# Altium schematic symbol library Schlib1.SchLib: 39 symbols
Pins are listed as number, name and electrical type; pins without a type are passive.

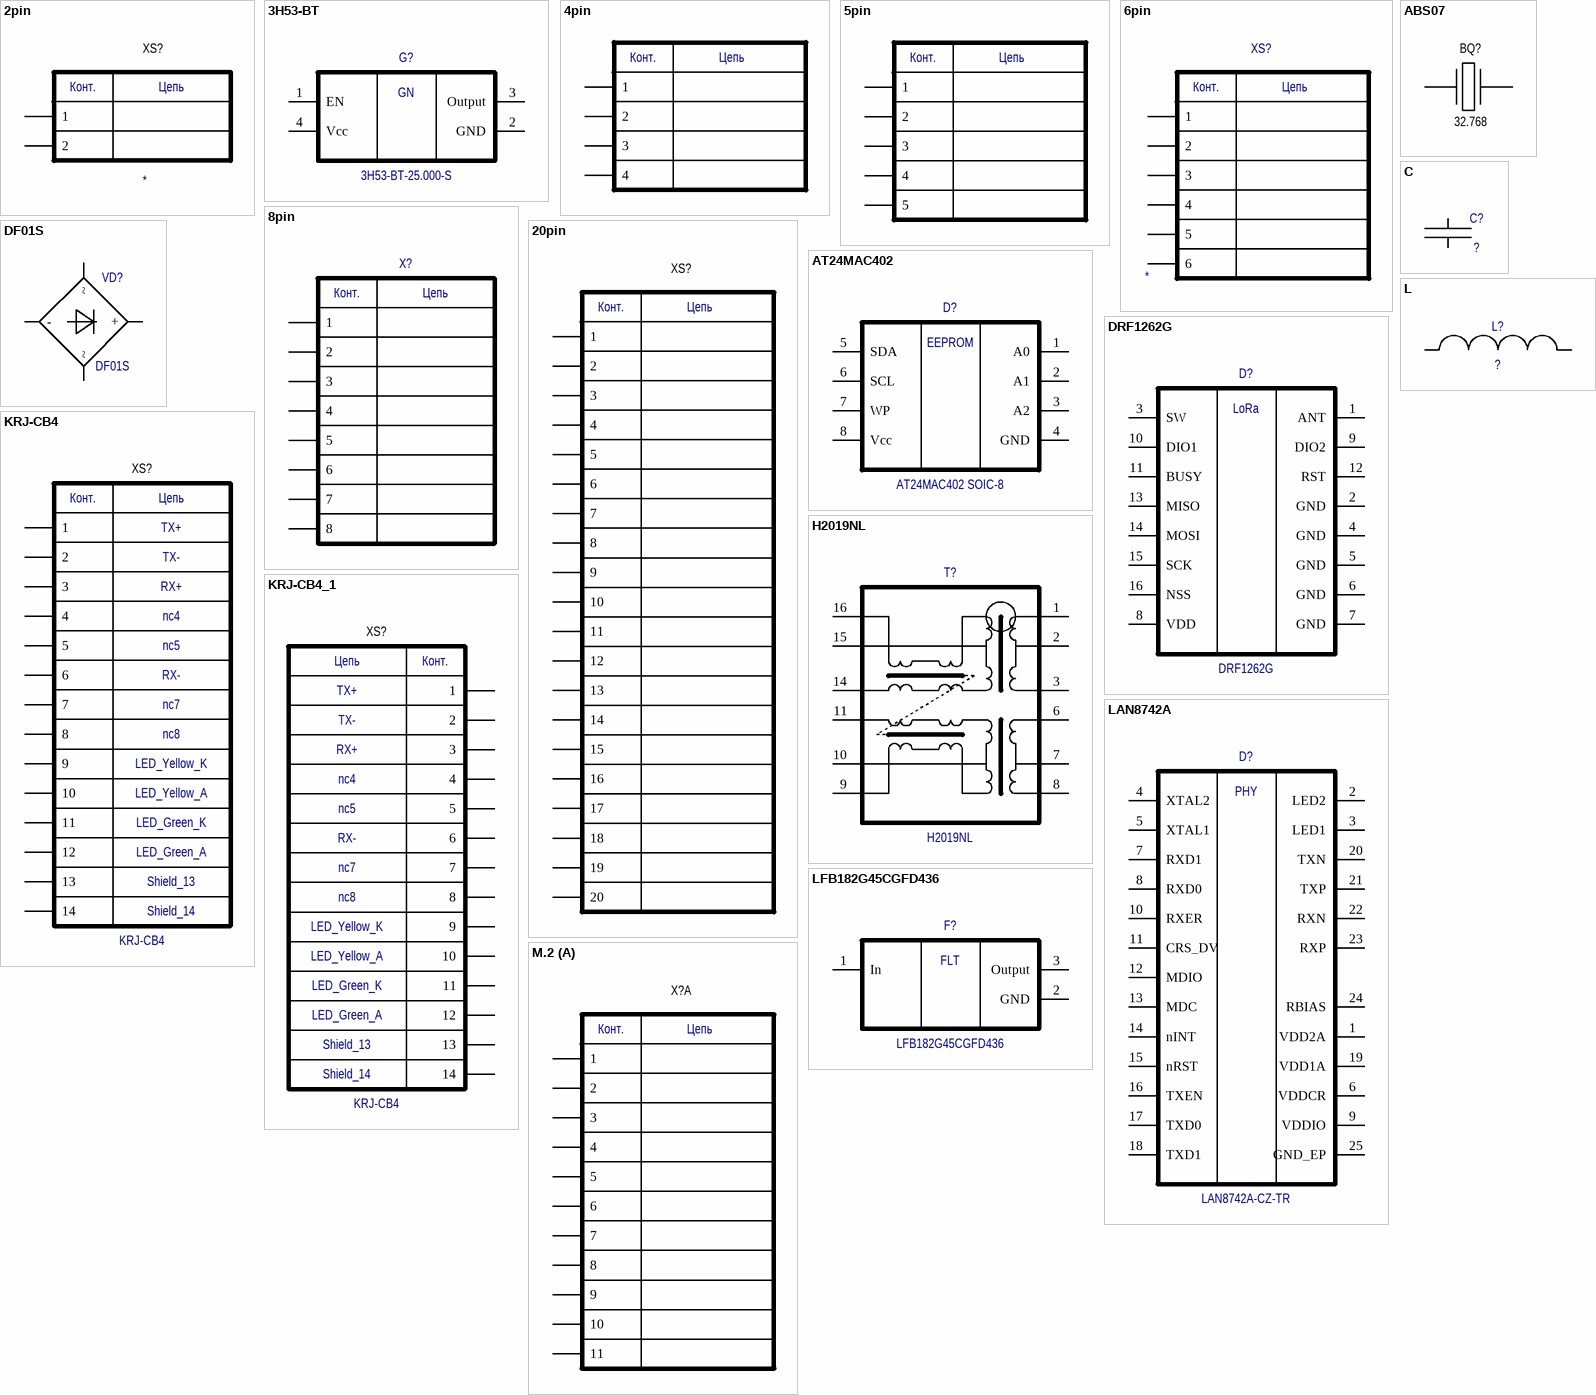
[diagram p0: symbols 2pin to M.2]

## 2pin
designator XS?
footprint SMA_angled
pins: 1, 2
text: Конт.; Цепь

## 3H53-BT
designator G?, comment 3H53-BT-25.000-S
footprint SMD4_5032
pins: 1 EN, 2 GND, 3 Output, 4 Vcc
text: GN

## 4pin
designator *  (value not drawn)
footprint СI1104М1V (4pin)
pins: 1, 2, 3, 4
text: Конт.; Цепь

## 5pin
designator *  (value not drawn)
footprint СI1105М1V (5pin)
pins: 1, 2, 3, 4, 5
text: Конт.; Цепь

## 6pin
designator XS?
Manufacturer: *; PartNumber: *
footprint PLS-6
footprint СI1106М1V (6pin)
footprint PLD-6
pins: 1, 2, 3, 4, 5, 6
text: Конт.; Цепь

## 8pin
designator X?  (value not drawn)
footprint СI1108М1V (8pin)
pins: 1, 2, 3, 4, 5, 6, 7, 8
text: Конт.; Цепь

## 20pin
designator XS?  (value not drawn)
footprint 20P-JMDSS-G-1-TF (20 pin plug)
footprint 20R-JMDSS-G-1-TF (20 pin Receptacle)
pins: 1, 2, 3, 4, 5, 6, 7, 8, 9, 10, 11, 12, 13, 14, 15, 16, 17, 18, 19, 20
text: Конт.; Цепь

## ABS07
designator BQ?  value 32.768  (hidden comment: ABS07)
footprint ABS07 (32.768)
pins: 1, 2

## AT24MAC402
designator D?, comment AT24MAC402 SOIC-8
pins: 1 A0, 2 A1, 3 A2, 4 GND, 5 SDA, 6 SCL, 7 WP, 8 Vcc
text: EEPROM

## C
designator C?  (value not drawn)
Voltage: ?; Value: ?
footprint С0603
pins: 1, 2

## DF01S
designator VD?
pins: 1 +, 2 -, 3 ~, 4 ~

## DRF1262G
designator D?
pins: 1 ANT, 2 GND, 3 SW, 4 GND, 5 GND, 6 GND, 7 GND, 8 VDD, 9 DIO2, 10 DIO1, 11 BUSY, 12 RST, 13 MISO, 14 MOSI, 15 SCK, 16 NSS
text: LoRa

## H2019NL
designator T?
pins: 1, 2, 3, 6, 7, 8, 9, 10, 11, 14, 15, 16

## KRJ-CB4
designator XS?
pins: 1, 2, 3, 4, 5, 6, 7, 8, 9, 10, 11, 12, 13, 14
text: Конт.; Цепь; TX+; TX-; RX+; nc4; nc5; RX-; nc7; nc8; LED_Yellow_K; LED_Yellow_A; LED_Green_K; LED_Green_A; Shield_13; Shield_14

## KRJ-CB4_1
designator XS?, comment KRJ-CB4
pins: 1, 2, 3, 4, 5, 6, 7, 8, 9, 10, 11, 12, 13, 14
text: Цепь; Конт.; TX+; TX-; RX+; nc4; nc5; RX-; nc7; nc8; LED_Yellow_K; LED_Yellow_A; LED_Green_K; LED_Green_A; Shield_13; Shield_14

## L
designator L?  (value not drawn)
Value: ?
pins: 1, 2

## LAN8742A
designator D?, comment LAN8742A-CZ-TR
pins: 1 VDD2A, 2 LED2, 3 LED1, 4 XTAL2, 5 XTAL1, 6 VDDCR, 7 RXD1, 8 RXD0, 9 VDDIO, 10 RXER, 11 CRS_DV, 12 MDIO, 13 MDC, 14 nINT, 15 nRST, 16 TXEN, 17 TXD0, 18 TXD1, 19 VDD1A, 20 TXN, 21 TXP, 22 RXN, 23 RXP, 24 RBIAS, 25 GND_EP
text: PHY

## LFB182G45CGFD436
designator F?
footprint 0603_3pin
pins: 1 In, 2 GND, 3 Output
text: FLT

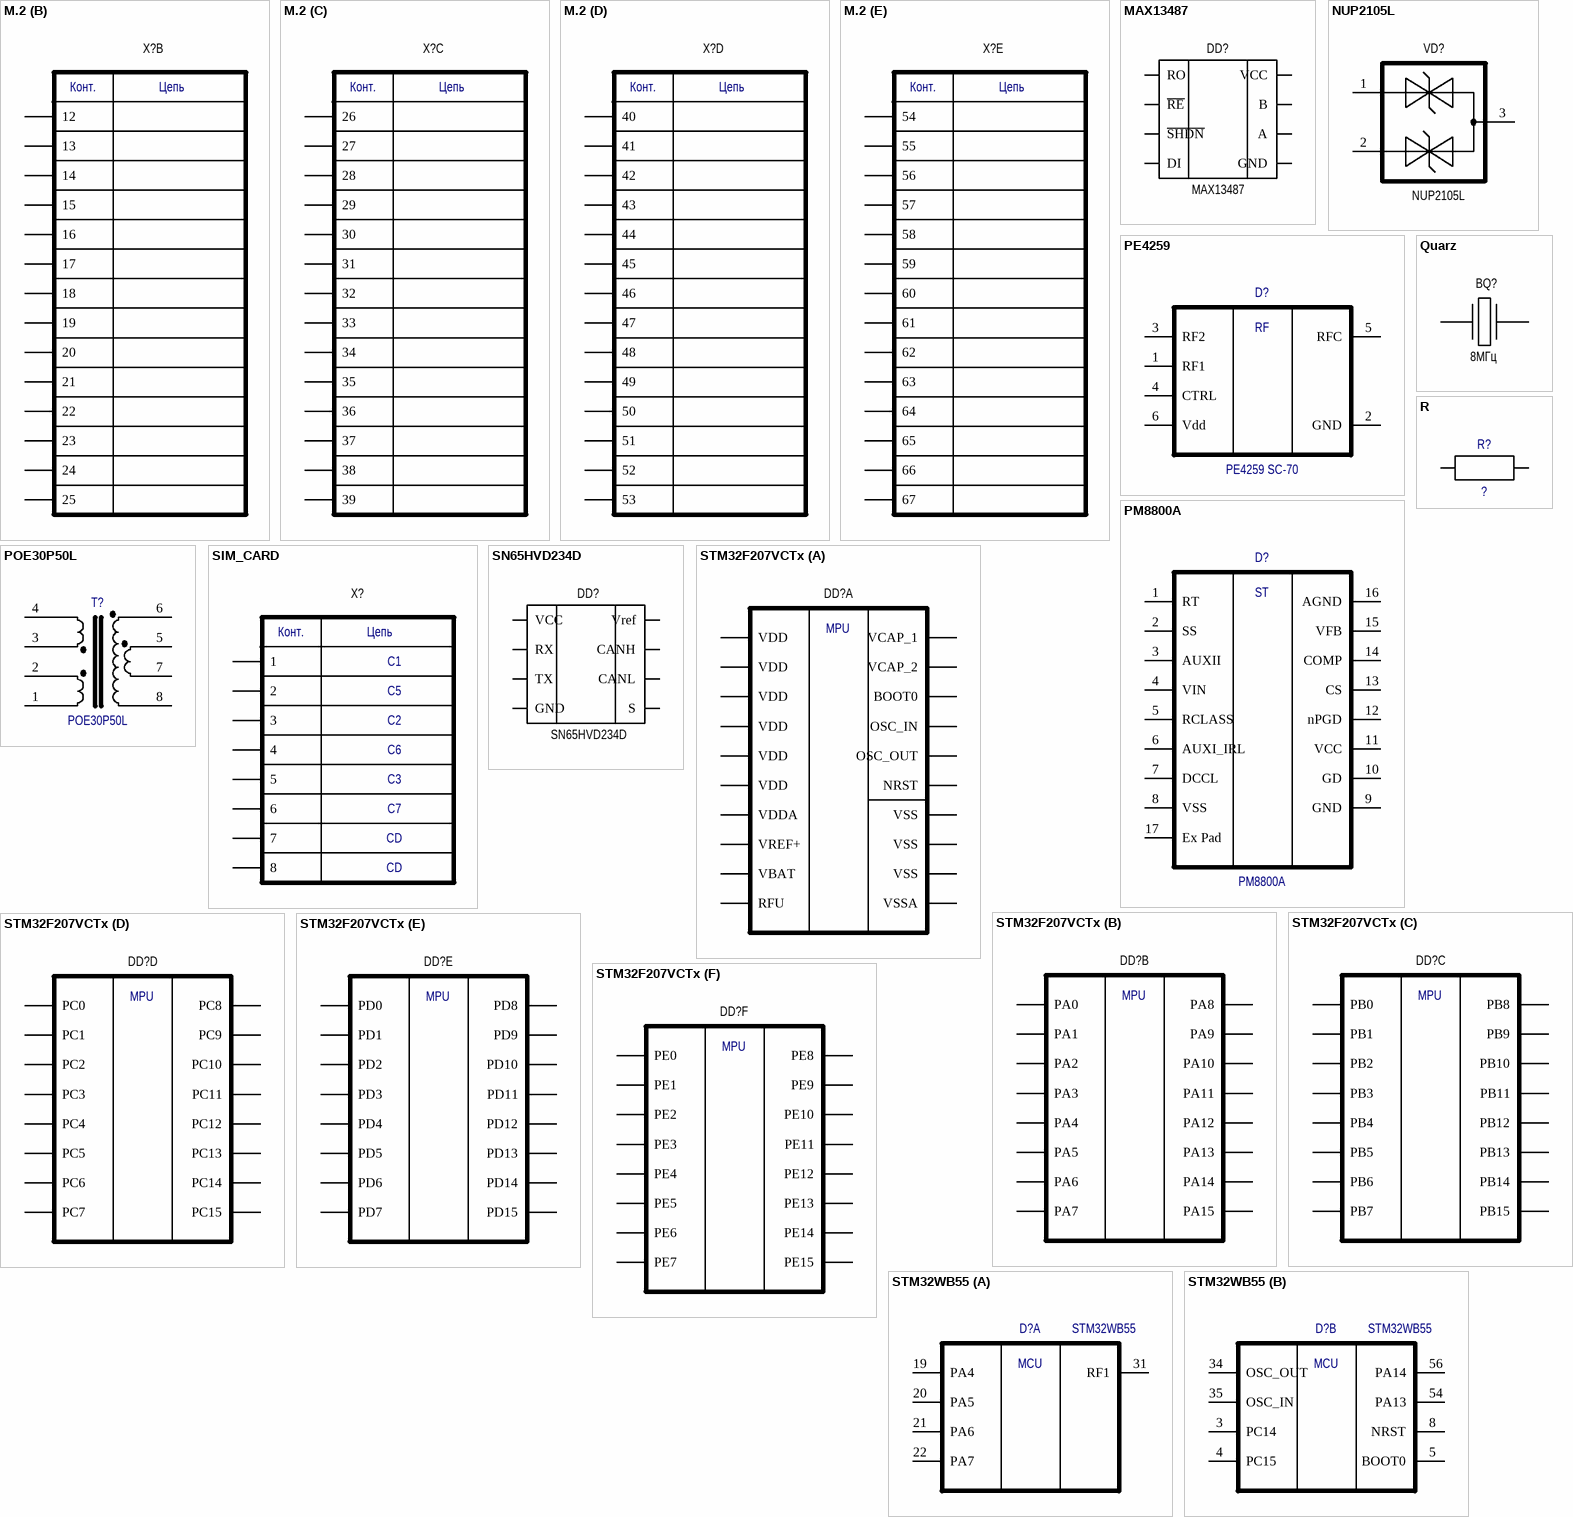
[diagram p1: symbols M.2 to STM32WB55]

## M.2
designator X?  (value not drawn)
footprint M.2_LoRa
footprint M.2_POE
footprint M.2 - 1-2199230-4
footprint M.2 - 1-2199230-4 EDGE
footprint M.2 - 2199230-5
footprint M.2 - 2199230-5 EDGE
part A pins: 1, 2, 3, 4, 5, 6, 7, 8, 9, 10, 11
part B pins: 12, 13, 14, 15, 16, 17, 18, 19, 20, 21, 22, 23, 24, 25
part C pins: 26, 27, 28, 29, 30, 31, 32, 33, 34, 35, 36, 37, 38, 39
part D pins: 40, 41, 42, 43, 44, 45, 46, 47, 48, 49, 50, 51, 52, 53
part E pins: 54, 55, 56, 57, 58, 59, 60, 61, 62, 63, 64, 65, 66, 67
part A text: Конт.; Цепь
part B text: Конт.; Цепь
part C text: Конт.; Цепь
part D text: Конт.; Цепь
part E text: Конт.; Цепь

## MAX13487
designator DD?
RS485
footprint SOIC8
pins: 1 RO, 2 ~{RE}, 3 ~{SHDN}, 4 DI, 5 GND, 6 A, 7 B, 8 VCC

## NUP2105L
designator VD?
footprint SOT-23
pins: 1 A, 2 C, 3 AC

## PE4259
designator D?, comment PE4259 SC-70
pins: 1 RF1, 2 GND, 3 RF2, 4 CTRL, 5 RFC, 6 Vdd
text: RF

## PM8800A
designator D?
pins: 1 RT, 2 SS, 3 AUXII, 4 VIN, 5 RCLASS, 6 AUXI_IRL, 7 DCCL, 8 VSS, 9 GND, 10 GD, 11 VCC, 12 nPGD, 13 CS, 14 COMP, 15 VFB, 16 AGND, 17 Ex Pad
text: ST

## POE30P50L
designator T?
pins: 1, 2, 3, 4, 5, 6, 7, 8

## Quarz
designator BQ?  value 8МГц
footprint HC-49
pins: 1, 2

## R
designator R?  (value not drawn)
Value: ?
footprint R0603
pins: 1, 2

## SIM_CARD
designator X?  (value not drawn)
footprint SIM_CARD_READER2
pins: 1, 2, 3, 4, 5, 6, 7, 8
text: Конт.; Цепь; С1; С5; С2; С6; С3; C7; CD

## SN65HVD234D
designator DD?
CAN
footprint SOIC8
pins: 1 TX, 2 GND, 3 VCC, 4 RX, 5 Vref, 6 CANL, 7 CANH, 8 S

## STM32F207VCTx
designator DD?  (value not drawn)
footprint LQFP100
part A pins: 6 VBAT, 10 VSS, 11 VDD, 12 OSC_IN, 13 OSC_OUT, 14 NRST, 19 VDD, 20 VSSA, 21 VREF+, 22 VDDA, 27 VSS, 28 VDD, 49 VCAP_1, 50 VDD, 73 VCAP_2, 74 VSS, 75 VDD, 94 BOOT0, 99 RFU, 100 VDD
part B pins: 23 PA0, 24 PA1, 25 PA2, 26 PA3, 29 PA4, 30 PA5, 31 PA6, 32 PA7, 67 PA8, 68 PA9, 69 PA10, 70 PA11, 71 PA12, 72 PA13, 76 PA14, 77 PA15
part C pins: 35 PB0, 36 PB1, 37 PB2, 47 PB10, 48 PB11, 51 PB12, 52 PB13, 53 PB14, 54 PB15, 89 PB3, 90 PB4, 91 PB5, 92 PB6, 93 PB7, 95 PB8, 96 PB9
part D pins: 7 PC13, 8 PC14, 9 PC15, 15 PC0, 16 PC1, 17 PC2, 18 PC3, 33 PC4, 34 PC5, 63 PC6, 64 PC7, 65 PC8, 66 PC9, 78 PC10, 79 PC11, 80 PC12
part E pins: 55 PD8, 56 PD9, 57 PD10, 58 PD11, 59 PD12, 60 PD13, 61 PD14, 62 PD15, 81 PD0, 82 PD1, 83 PD2, 84 PD3, 85 PD4, 86 PD5, 87 PD6, 88 PD7
part F pins: 1 PE2, 2 PE3, 3 PE4, 4 PE5, 5 PE6, 38 PE7, 39 PE8, 40 PE9, 41 PE10, 42 PE11, 43 PE12, 44 PE13, 45 PE14, 46 PE15, 97 PE0, 98 PE1
part A text: MPU
part B text: MPU
part C text: MPU
part D text: MPU
part E text: MPU
part F text: MPU

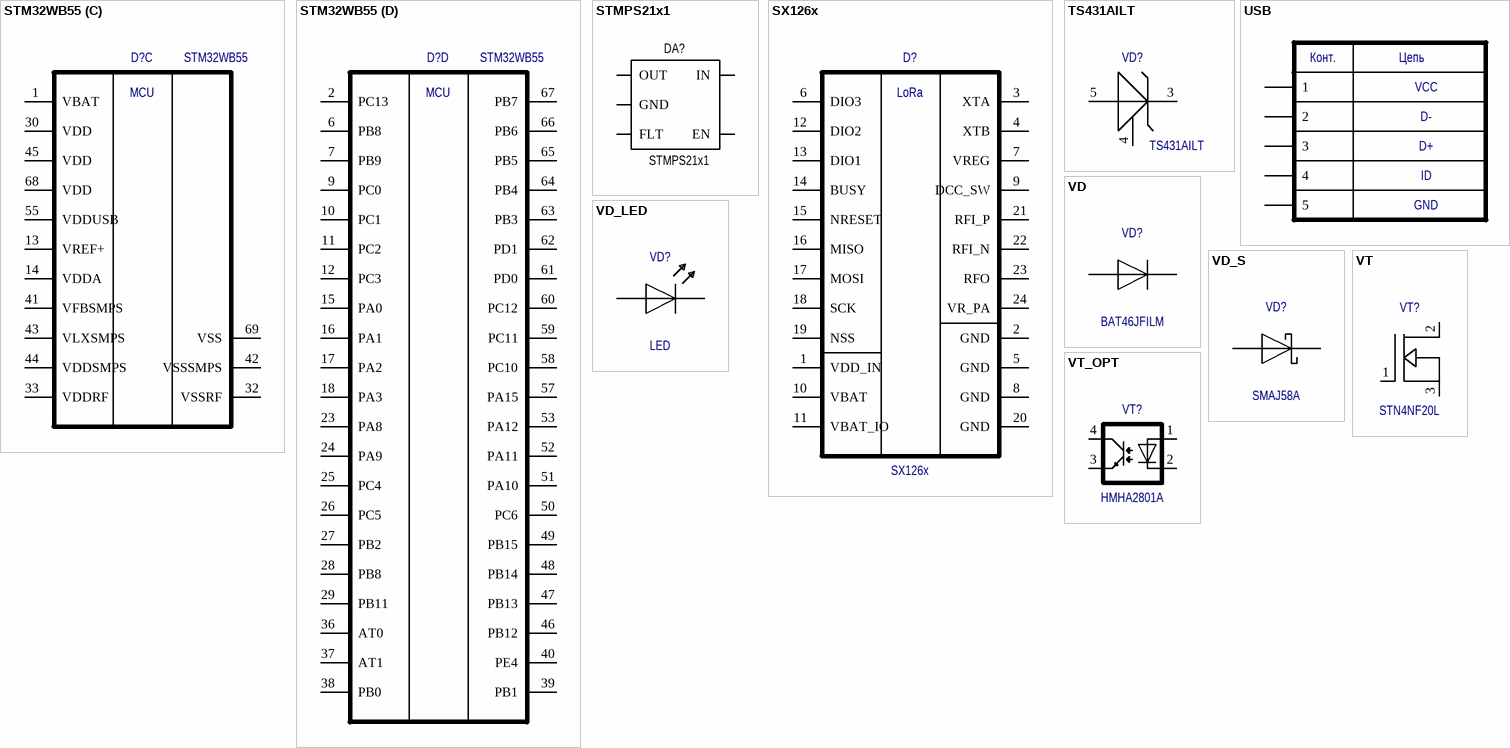
[diagram p2: symbols STM32WB55 to VT_OPT]

## STM32WB55
designator D?
footprint VFQFN68-8x8mm
part A pins: 19 PA4, 20 PA5, 21 PA6, 22 PA7, 31 RF1
part B pins: 3 PC14, 4 PC15, 5 BOOT0, 8 NRST, 34 OSC_OUT, 35 OSC_IN, 54 PA13, 56 PA14
part C pins: 1 VBAT, 13 VREF+, 14 VDDA, 30 VDD, 32 VSSRF, 33 VDDRF, 41 VFBSMPS, 42 VSSSMPS, 43 VLXSMPS, 44 VDDSMPS, 45 VDD, 55 VDDUSB, 68 VDD, 69 VSS
part D pins: 2 PC13, 6 PB8, 7 PB9, 9 PC0, 10 PC1, 11 PC2, 12 PC3, 15 PA0, 16 PA1, 17 PA2, 18 PA3, 23 PA8, 24 PA9, 25 PC4, 26 PC5, 27 PB2, 28 PB8, 29 PB11, 36 AT0, 37 AT1, 38 PB0, 39 PB1, 40 PE4, 46 PB12, 47 PB13, 48 PB14, 49 PB15, 50 PC6, 51 PA10, 52 PA11, 53 PA12, 57 PA15, 58 PC10, 59 PC11, 60 PC12, 61 PD0, 62 PD1, 63 PB3, 64 PB4, 65 PB5, 66 PB6, 67 PB7
part A text: MCU
part B text: MCU
part C text: MCU
part D text: MCU

## STMPS21x1
designator DA?
footprint SOT-23-5
pins: 1 OUT, 2 GND, 3 FLT, 4 EN, 5 IN

## SX126x
designator D?
pins: 1 VDD_IN, 2 GND, 3 XTA, 4 XTB, 5 GND, 6 DIO3, 7 VREG, 8 GND, 9 DCC_SW, 10 VBAT, 11 VBAT_IO, 12 DIO2, 13 DIO1, 14 BUSY, 15 NRESET, 16 MISO, 17 MOSI, 18 SCK, 19 NSS, 20 GND, 21 RFI_P, 22 RFI_N, 23 RFO, 24 VR_PA
text: LoRa

## TS431AILT
designator VD?
pins: 3 Cathode, 4 Ref, 5 Anode

## USB
designator *  (value not drawn)
footprint USB-micro
pins: 1, 2, 3, 4, 5
text: Конт.; Цепь; VCC; D-; D+; ID; GND

## VD
designator VD?, comment BAT46JFILM
Voltage: ?
pins: 1, 2

## VD_LED
designator VD?, comment LED
Voltage: ?
pins: 1, 2

## VD_S
designator VD?, comment SMAJ58A
Voltage: ?
pins: 1, 2

## VT
designator VT?, comment STN4NF20L
Voltage: ?
pins: 1, 2, 3

## VT_OPT
designator VT?, comment HMHA2801A
Voltage: ?
pins: 1, 2, 3, 4